# EAGLE library part 18F26K20 (library custom)
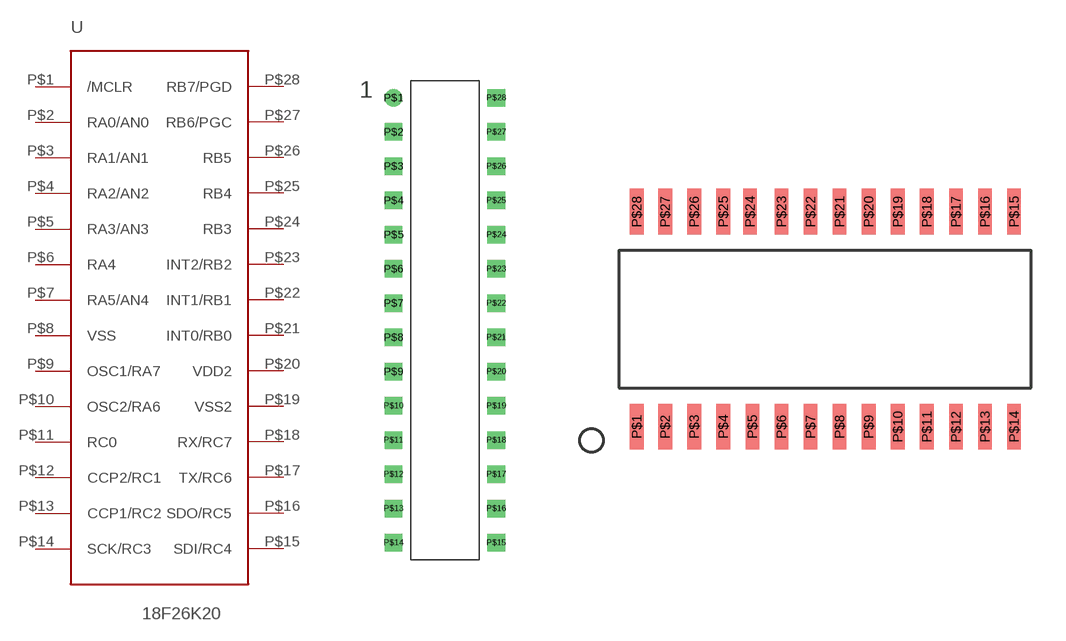
[diagram p15: symbol with the pads of SPDIP28_300; footprints SPDIP28_300, SO28W]

Designator prefix U

## 18F26K20  [SPDIP28_300]
P$1  /MCLR
P$2  RA0/AN0
P$3  RA1/AN1
P$4  RA2/AN2
P$5  RA3/AN3
P$6  RA4
P$7  RA5/AN4
P$8  VSS
P$9  OSC1/RA7
P$10  OSC2/RA6
P$11  RC0
P$12  CCP2/RC1
P$13  CCP1/RC2
P$14  SCK/RC3
P$15  SDI/RC4
P$16  SDO/RC5
P$17  TX/RC6
P$18  RX/RC7
P$19  VSS2
P$20  VDD2
P$21  INT0/RB0
P$22  INT1/RB1
P$23  INT2/RB2
P$24  RB3
P$25  RB4
P$26  RB5
P$27  RB6/PGC
P$28  RB7/PGD

## 18F26K20SO28W  [SO28W]
Pads as for SPDIP28_300

## Footprint SPDIP28_300 (pad centres in mm)
drill 0.8 round: P$1 -3.81,16.51
drill 0.8 square: P$2 -3.81,13.97; P$3 -3.81,11.43; P$4 -3.81,8.89; P$5 -3.81,6.35; P$6 -3.81,3.81; P$7 -3.81,1.27; P$8 -3.81,-1.27; P$9 -3.81,-3.81; P$10 -3.81,-6.35; P$11 -3.81,-8.89; P$12 -3.81,-11.43; P$13 -3.81,-13.97; P$14 -3.81,-16.51; P$15 3.81,-16.51; P$16 3.81,-13.97; P$17 3.81,-11.43; P$18 3.81,-8.89; P$19 3.81,-6.35; P$20 3.81,-3.81; P$21 3.81,-1.27; P$22 3.81,1.27; P$23 3.81,3.81; P$24 3.81,6.35; P$25 3.81,8.89; P$26 3.81,11.43; P$27 3.81,13.97; P$28 3.81,16.51

## Footprint SO28W (pad centres in mm)
smd 0.6 x 2: P$1 -8.225,-4.7; P$2 -6.985,-4.7; P$3 -5.715,-4.7; P$4 -4.445,-4.7; P$5 -3.175,-4.7; P$6 -1.905,-4.7; P$7 -0.635,-4.7; P$8 0.635,-4.7; P$9 1.905,-4.7; P$10 3.175,-4.7; P$11 4.445,-4.7; P$12 5.715,-4.7; P$13 6.985,-4.7; P$14 8.255,-4.7; P$15 8.255,4.7; P$16 6.985,4.7; P$17 5.715,4.7; P$18 4.445,4.7; P$19 3.175,4.7; P$20 1.905,4.7; P$21 0.635,4.7; P$22 -0.635,4.7; P$23 -1.905,4.7; P$24 -3.275,4.7; P$25 -4.445,4.7; P$26 -5.715,4.7; P$27 -6.985,4.7; P$28 -8.225,4.7